# EAGLE library part SN65HVD72 (library SNx5HVD308xE)
SN65HVD72 3v3 RS485 driver, 250kbps
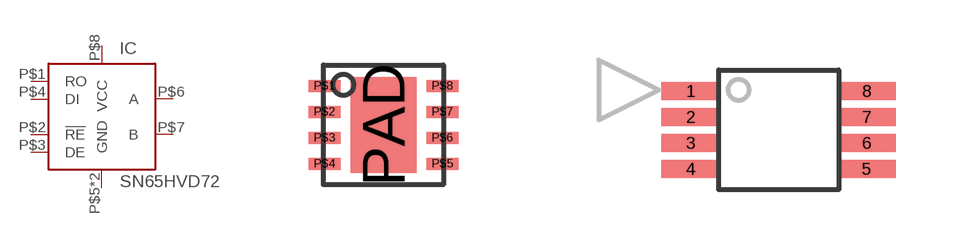
[diagram p1: symbol with the pads of 8VDFN_PAD; footprints 8VDFN_PAD, VSSOP-8]

Designator prefix IC

## SN65HVD72DRB  [8VDFN_PAD]
P$1  RO  out
P$2  !RE  in
P$3  DE  in
P$4  DI  in
P$5  GND  in
P$6  A
P$7  B
P$8  VCC  in
PAD  GND  in

## SN65HVD72DGK  [VSSOP-8]
1  RO  out
2  !RE  in
3  DE  in
4  DI  in
5  GND  in
6  A
7  B
8  VCC  in

## Footprint 8VDFN_PAD (pad centres in mm)
smd 0.8 x 0.3: P$1 -1.475,0.975; P$2 -1.475,0.325; P$3 -1.475,-0.325; P$4 -1.475,-0.975; P$5 1.475,-0.975; P$6 1.475,-0.325; P$7 1.475,0.325; P$8 1.475,0.975
smd 1.65 x 2.4: PAD 0,0

## Footprint VSSOP-8 (pad centres in mm)
smd 1.45 x 0.45: 1 -2.2,0.975; 2 -2.2,0.325; 3 -2.2,-0.325; 4 -2.2,-0.975; 5 2.2,-0.975; 6 2.2,-0.325; 7 2.2,0.325; 8 2.2,0.975